# Altium integrated library SN74LVC1G14DCK.IntLib: 2 symbols
Pins are listed as number, name and electrical type; pins without a type are passive.

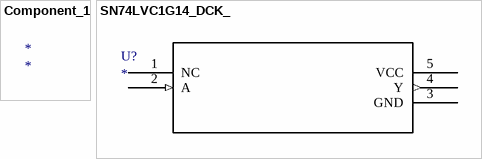
[diagram p0: symbols Component_1 to SN74LVC1G14_DCK_]

## Component_1
designator *

## SN74LVC1G14_DCK_
designator U?
Imported; Manufacturer: Texas Instruments; GENERIC_PART_NUMBER: SN74LVC1G14; Manufacturer_Part_Number: sn74lvc1g14_dck_5; INDUSTRY_STD_PKG_TYPE: SC70; FAMILY_NAME: LL INVERTER; PIN_COUNT: 5; PACKAGE_DESIGNATOR: DCK; Datasheet URL: http://www.ti.com/lit/gpn/SN74LVC1G14; Vendor: Texas Instruments; RefDes: RefDes; Type: DEV; Value: Value
footprint DCK5
pins: 1 NC, 2 A (in), 3 GND (power), 4 Y (out), 5 VCC (power)